# Altium integrated library D6C90F1LFS.IntLib: 1 symbol
Pins are listed as number, name and electrical type; pins without a type are passive.

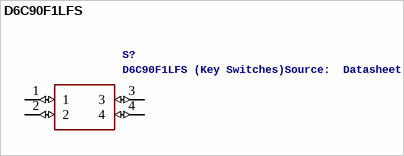
[diagram p0: symbol D6C90F1LFS]

## D6C90F1LFS
designator S?, comment D6C90F1LFS (Key Switches)Source:  Datasheet
Manufacturer_Name: C & K COMPONENTS; GateName_1: G$1; SymbolName_1: D6C90F1LFS; LibraryName: D6C90F1LFS; DeviceSetName: D6C90F1LFS; Package: D6C10F1LFS; Manufacturer_Part_Number: D6C90F1LFS; Arrow_Part_Number: D6C90F1LFS; Arrow_Price-Stock: https://www.arrow.com/en/products/d6c90f1lfs/ck; Description: D6C90F1LFS (Key Switches); Height: mm
footprint D6C10F1LFS
pins: 1 (io), 2 (io), 3 (io), 4 (io)